# Altium schematic symbol library ANT11SF1CQE.SchLib: 1 symbol
Pins are listed as number, name and electrical type; pins without a type are passive.

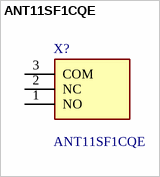
[diagram p0: symbol ANT11SF1CQE]

## ANT11SF1CQE
designator X?
SWITCH TOGGLE SPDT 5A 120V; Manufacturer_Name: CIT Relay & Switch; Geometry.Height: 26.66mm; Manufacturer_Part_Number: ANT11SF1CQE; Mouser Part Number: *; Mouser Price/Stock: *; Arrow Part Number: *; Arrow Price/Stock: *; Datasheet Link: https://www.citrelay.com/CatalogPages/SwitchCatalog/ANT.pdf
footprint ANT11SF1CQE
pins: 1 NO, 2 NC, 3 COM